# Altium footprint library OLED12864.PcbLib: 2 footprints
Each footprint in its own frame and in the unit in brackets; x right, y up, seen from the top. Pads: shape width x height; smd on the part's side, far side on the other; paste and mask are expansions set on the pad; w line width, h text height; cw(c..) or ccw(c..) is an arc to the next point about the centre after c.
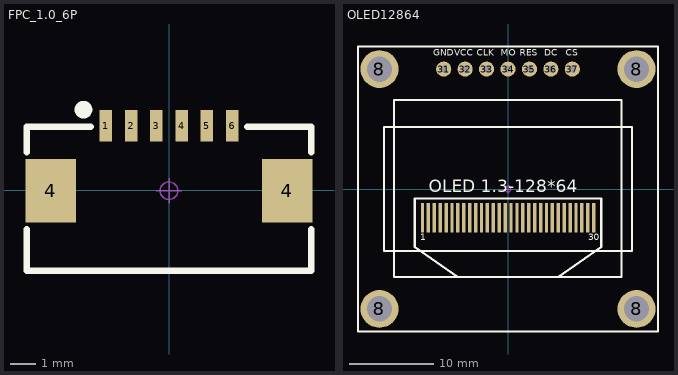
[diagram p0: the footprints below, top view; thin cyan lines are the x and y axes]

## FPC_1.0_6P [mm]
pads (8):
  rect 0.5x1.25 smd: 1(-2.5,2.558) 2(-1.5,2.558) 3(-0.5,2.558) 4(0.5,2.558) 5(1.5,2.558) 6(2.5,2.558)
  rect 2x2.5 smd: 4(-4.69,-0.017) 4(4.69,-0.017)
Top Overlay:
  circle w0.5: c-3.389,3.193 r0.1
  lines w0.254: -5.636,-1.541 -5.636,-3.192 5.636,-3.192 5.636,-1.541 ; -5.636,1.507 -5.636,2.523 -3.096,2.523 ; 3.096,2.523 5.636,2.523 5.636,1.507
Mechanical 15:
  circle w0.05: c0,-0.017 r0.35
  lines w0.05: -0.5,-0.017 0.5,-0.017 ; 0,-0.517 0,0.483
3D body: height 2, standoff -0.02, extent -5.45,-3.168 5.45,2.833

## OLED12864 [mm]
pads (41):
  rect 0.4x3.5 smd: 1(-10.14,-3.429) 2(-9.44,-3.429) 3(-8.74,-3.429) 4(-8.04,-3.429) 5(-7.34,-3.429) 6(-6.64,-3.429) 7(-5.94,-3.429) 8(-5.24,-3.429) 9(-4.54,-3.429) 10(-3.84,-3.429) 11(-3.14,-3.429) 12(-2.44,-3.429) 13(-1.74,-3.429) 14(-1.04,-3.429) 15(-0.34,-3.429) 16(0.36,-3.429) 17(1.06,-3.429) 18(1.76,-3.429) 19(2.46,-3.429) 20(3.16,-3.429) 21(3.86,-3.429) 22(4.56,-3.429) 23(5.26,-3.429) 24(5.96,-3.429) 25(6.66,-3.429) 26(7.36,-3.429) 27(8.06,-3.429) 28(8.76,-3.429) 29(9.46,-3.429) 30(10.16,-3.429)
  round 4.5 hole 3: 8(-15.24,-14.21) 8(-15.24,14.21) 8(15.24,-14.21) 8(15.24,14.21)
  round 1.8 hole 0.8: 31(-7.62,14.21) 32(-5.08,14.21) 33(-2.54,14.21) 34(0,14.21) 35(2.54,14.21) 36(5.08,14.21) 37(7.62,14.21)
Top Overlay:
  lines w0.2: -17.78,-16.891 17.78,-16.891 17.78,16.891 -17.78,16.891 -17.78,-16.891 ; -14.7,-7.35 -14.7,7.35 14.7,7.35 14.7,-7.35 -14.7,-7.35
  lines w0.254: -13.5,10.541 -13.5,-10.414 13.462,-10.414 13.462,10.541 5.588,10.541 ; -13.373,10.541 5.842,10.541 ; -5.969,-10.414 -11.049,-6.858 -11.049,-1.143 11.049,-1.143 11.049,-6.858 5.969,-10.414
  text "30" at 9.525,-6.35 h1.32
  text "1" at -10.414,-6.35 h1.32
  text "CS" at 6.858,15.494 h1.32
  text "DC" at 4.318,15.494 h1.32
  text "RES" at 1.397,15.494 h1.32
  text "MO" at -0.889,15.494 h1.32
  text "CLK" at -3.683,15.494 h1.32
  text "VCC" at -6.35,15.494 h1.32
  text "GND" at -8.89,15.494 h1.32
  text "OLED 1.3-128*64" at -9.398,-0.889 h2.54
Mechanical 15:
  circle w0.05: c0,0 r0.35
  lines w0.05: -0.5,0 0.5,0 ; 0,-0.5 0,0.5
3D body: height 5.5, standoff -6.02, extent -17.7,-16.75 17.7,16.75